# EAGLE library part SI7013 (library Silicon Labs)
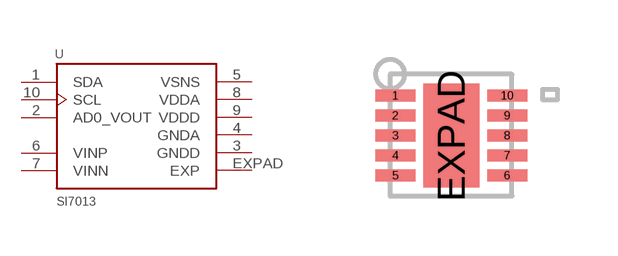
[diagram p10: symbol with the pads of DFN10_3X3; footprint DFN10_3X3]

Designator prefix U

## SI7013  [DFN10_3X3]
1  SDA
2  AD0_VOUT
3  GNDD  pwr
4  GNDA  pwr
5  VSNS  in
6  VINP  in
7  VINN  in
8  VDDA  pwr
9  VDDD  pwr
10  SCL  in
EXPAD  EXP  pwr

## Footprint DFN10_3X3 (pad centres in mm)
smd 1 x 0.3: 1 -1.397,0.984; 2 -1.397,0.484; 3 -1.397,-0.016; 4 -1.397,-0.516; 5 -1.397,-1.016; 6 1.403,-1.016; 7 1.403,-0.516; 8 1.403,-0.016; 9 1.403,0.484; 10 1.403,0.984
smd 1.4 x 2.6: EXPAD 0.003,-0.016